# EAGLE library part DPDT_DIP_RELAY (library switch)
RELAY DPDT Purchased from all electronics part number: rly=625 Made by Kest Datasheet at http://www.kestparts.com/datasheets/relays/KS2EMseries.pdf
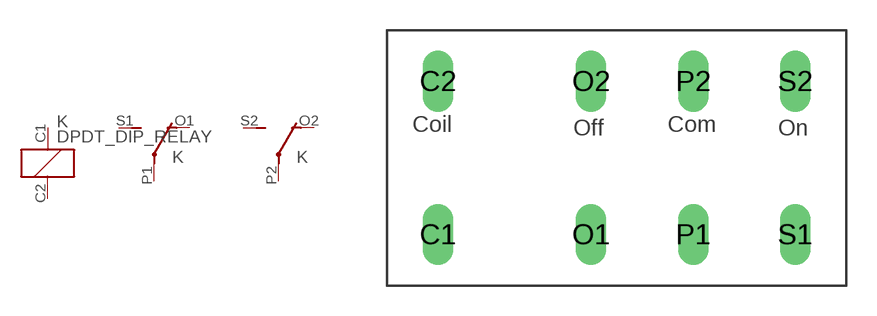
[diagram p0: symbol with the pads of DPDT_DIP_RELAY; footprint DPDT_DIP_RELAY]

Designator prefix K; gates 1=K 2=U 3=U

## DPDT_DIP_RELAY  [DPDT_DIP_RELAY]
C1  1:1  pas
C2  1:2  pas
O1  2:O  pas
O2  3:O  pas
P1  2:P  pas
P2  3:P  pas
S1  2:S  pas
S2  3:S  pas

## Footprint DPDT_DIP_RELAY (pad centres in mm)
RELAY 2 x switch, Omron
drill 1.016 long: C1 -2.54,7.62; C2 -2.54,15.24; O1 5.08,7.62; O2 5.08,15.24; P1 10.16,7.62; P2 10.16,15.24; S1 15.24,7.62; S2 15.24,15.24